# Altium footprint library D 电容.PCBLIB: 81 footprints (part 6 of 6)
Each footprint in its own frame and in the unit in brackets; x right, y up, seen from the top. Pads: shape width x height; smd on the part's side, far side on the other; paste and mask are expansions set on the pad; w line width, h text height; cw(c..) or ccw(c..) is an arc to the next point about the centre after c.
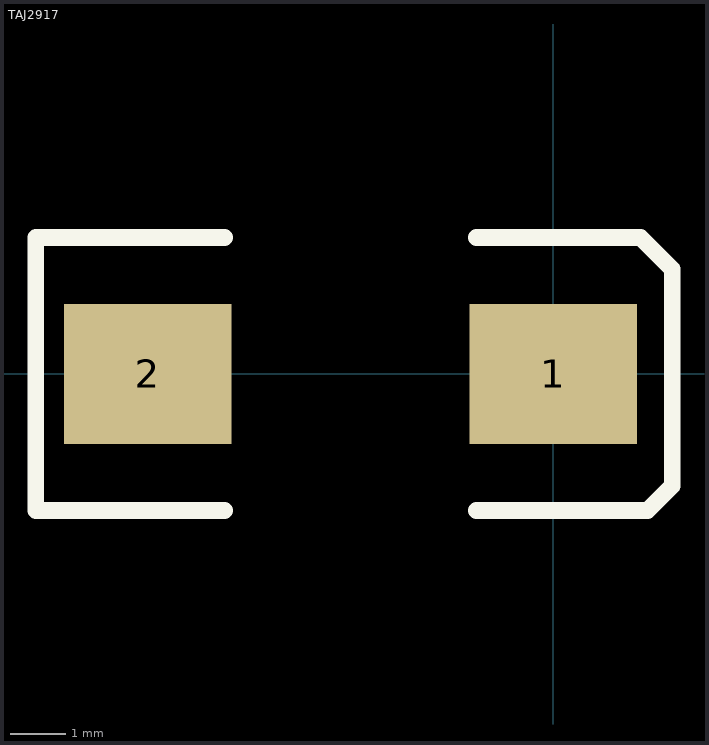
[diagram p5: the footprint, top view; thin cyan lines are the x and y axes]

## TAJ2917 [mil] "钽电容，长7.3mm，宽4.3mm"
pads (2):
  rect 120x100 smd: 1(0,0) 2(-290,0)
Top Overlay:
  lines w12: -235,-97.56 -370,-97.56 -370,97.56 -235,97.56 ; -55,-97.56 67.44,-97.56 85,-80 85,75 62.44,97.56 -55,97.56